# EAGLE library part FPC_14 (library Custom_Library)
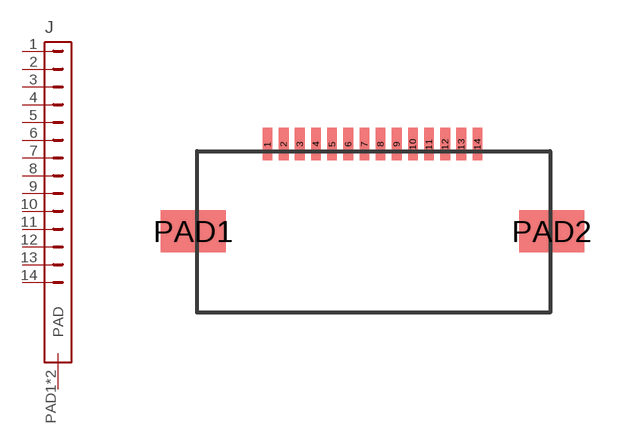
[diagram p32: symbol with the pads of FPC_14; footprint FPC_14]

Designator prefix J

## FPC_14  [FPC_14]
1  1  pas
2  2  pas
3  3  pas
4  4  pas
5  5  pas
6  6  pas
7  7  pas
8  8  pas
9  9  pas
10  10  pas
11  11  pas
12  12  pas
13  13  pas
14  14  pas
PAD1  PAD
PAD2  PAD

## Footprint FPC_14 (pad centres in mm)
smd 0.3 x 1: 1 -3.25,0; 2 -2.75,0; 3 -2.25,0; 4 -1.75,0; 5 -1.25,0; 6 -0.75,0; 7 -0.25,0; 8 0.25,0; 9 0.75,0; 10 1.25,0; 11 1.75,0; 12 2.25,0; 13 2.75,0; 14 3.25,0
smd 2 x 1.3: PAD1 -5.55,-2.7; PAD2 5.55,-2.7